# Altium footprint library ATmega32_ComServ.PcbLib: 13 footprints
Each footprint in its own frame and in the unit in brackets; x right, y up, seen from the top. Pads: shape width x height; smd on the part's side, far side on the other; paste and mask are expansions set on the pad; w line width, h text height; cw(c..) or ccw(c..) is an arc to the next point about the centre after c.
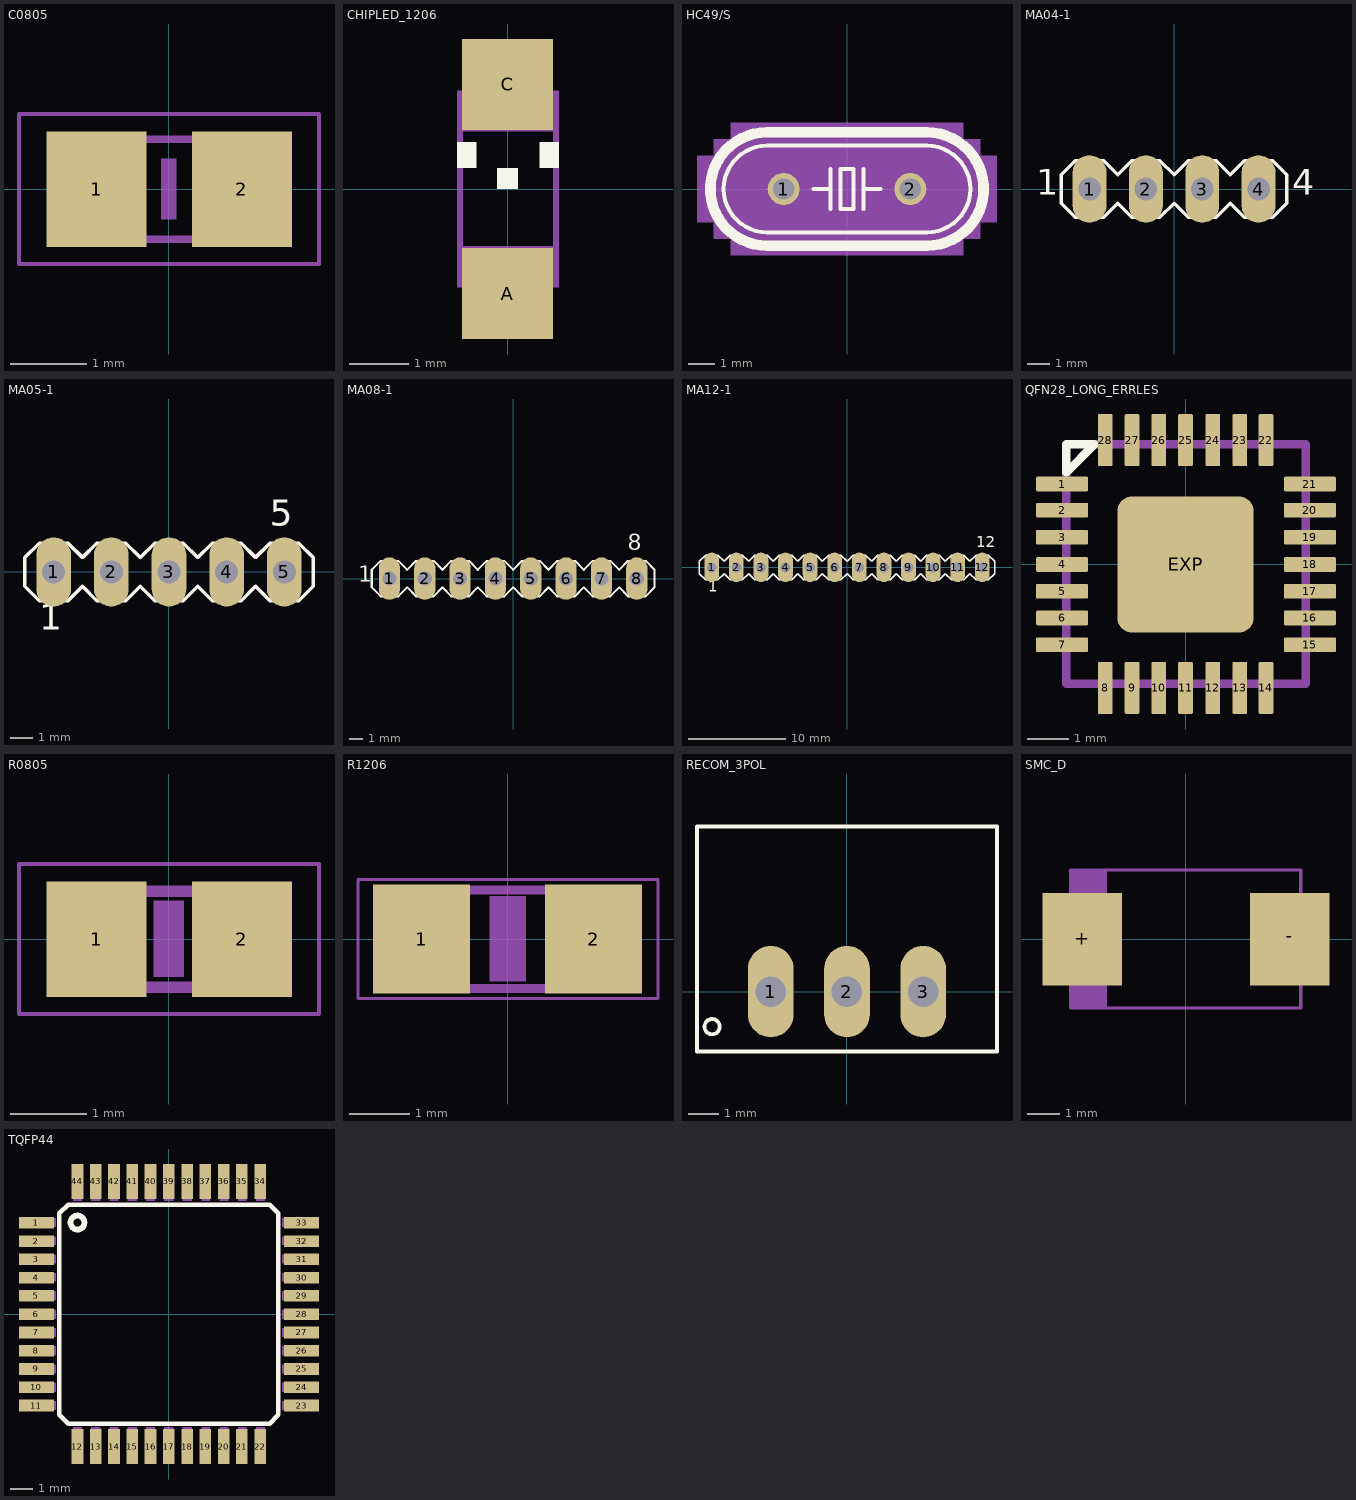
[diagram p0: the footprints below, top view; thin cyan lines are the x and y axes]

## C0805 [mil] "C0805"
pads (2):
  rect 52x60 smd: 1(-37.4,0) 2(38,0)
Mechanical 6:
  rectangle: -3.94,-15.75 4,16
Mechanical 16:
  rectangle: 14,-28.5 44,29
  rectangle: -43,-28.5 -13.47,29
  lines w2: -77.68,-38.7 -77.68,39 78,39 78,-38.7 -77.68,-38.7
  lines w4: -15,26 15,26 ; -14.02,-25.98 15,-25.98

## CHIPLED_1206 [mil] "CHIPLED_1206"
pads (2):
  rect 60x60 smd: A(0,-68.9) C(0,69)
Top Overlay:
  rectangle: -33.46,14 -20.67,31
  rectangle: 21,14 34,31
  rectangle: -6.89,0 7,14
Mechanical 16:
  circle w4: c-21.65,57 r4
  rectangle: -33.46,61 -13.78,65
  rectangle: -33.46,49 -24.61,62
  rectangle: -17.72,49 -12.8,58
  rectangle: -25.59,49 -8.86,54
  rectangle: 14,52 34,65
  rectangle: 10,49 34,54
  rectangle: -33.46,38 34,50
  rectangle: -33.46,-64.96 34,-37.4
  lines w4: -31.5,-37.4 -31.5,38 ; -15.75,63 ccw(c0.13,64.02) 16,63 ; 32,-37.4 32,38

## HC49/S [mil] "HC49/S"
pads (2):
  round 48 hole 32: 1(-95,0) 2(95,0)
Top Overlay:
  lines w6: -50,0 -25,0 ; -25,-30 -25,0 ; -25,30 -25,0 ; 25,-30 25,0 ; 25,30 25,0 ; 50,0 25,0 ; -120,-65 cw(c-120,0) -120,65 120,65 cw(c120,0) 120,-65 -120,-65 ; -10,-30 10,-30 10,30 -10,30 -10,-30
  lines w16: -120,-85 cw(c-120,0) -120,85 120,85 cw(c120,0) 120,-85 -120,-85
Mechanical 10:
  rectangle: -175,-100 175,100
  rectangle: -200,-75 -175,75
  rectangle: -225,-50 -200,50
  rectangle: 175,-75 200,75
  rectangle: 200,-50 225,50

## MA04-1 [mil] "MA04-1"
pads (4):
  oval 60x120 hole 40: 1(-150,0) 2(-50,0) 3(50,0) 4(150,0)
Top Overlay:
  lines w6: -200,-25 -200,25 -175,50 -125,50 -100,25 -75,50 -25,50 0,25 25,50 75,50 100,25 125,50 175,50 200,25 200,-25 175,-50 125,-50 100,-25 75,-50 25,-50 0,-25 -25,-50 -75,-50 -100,-25 -125,-50 -175,-50 -200,-25
  text "1" at -245,-25 h77.5
  text "4" at 210,-25 h77.5
Mechanical 16:
  rectangle: -60,-10 -40,10
  rectangle: -160,-10 -140,10
  rectangle: 40,-10 60,10
  rectangle: 140,-10 160,10

## MA05-1 [mil] "MA05-1"
pads (5):
  oval 60x120 hole 40: 1(-200,0) 2(-100,0) 3(0,0) 4(100,0) 5(200,0)
Top Overlay:
  lines w6: -250,-25 -250,25 -225,50 -175,50 -150,25 -125,50 -75,50 -50,25 -25,50 25,50 50,25 75,50 125,50 150,25 175,50 225,50 250,25 250,-25 225,-50 175,-50 150,-25 125,-50 75,-50 50,-25 25,-50 -25,-50 -50,-25 -75,-50 -125,-50 -150,-25 -175,-50 -225,-50 -250,-25
  text "1" at -225,-115 h77.5
  text "5" at 175,65 h77.5
Mechanical 16:
  rectangle: -110,-10 -90,10
  rectangle: -210,-10 -190,10
  rectangle: -10,-10 10,10
  rectangle: 190,-10 210,10
  rectangle: 90,-10 110,10

## MA08-1 [mil] "MA08-1"
pads (8):
  oval 60x120 hole 40: 1(-350,0) 2(-250,0) 3(-150,0) 4(-50,0) 5(50,0) 6(150,0) 7(250,0) 8(350,0)
Top Overlay:
  lines w6: -400,-25 -400,25 -375,50 -325,50 -300,25 -275,50 -225,50 -200,25 -175,50 -125,50 -100,25 -75,50 -25,50 0,25 25,50 75,50 100,25 125,50 175,50 200,25 225,50 275,50 300,25 325,50 375,50 400,25 400,-25 375,-50 325,-50 300,-25 275,-50 225,-50 200,-25 175,-50 125,-50 100,-25 75,-50 25,-50 0,-25 -25,-50 -75,-50 -100,-25 -125,-50 -175,-50 -200,-25 -225,-50 -275,-50 -300,-25 -325,-50 -375,-50 -400,-25
  text "1" at -439,-25 h77.5
  text "8" at 325,65 h77.5
Mechanical 16:
  rectangle: -260,-10 -240,10
  rectangle: -360,-10 -340,10
  rectangle: -160,-10 -140,10
  rectangle: -60,-10 -40,10
  rectangle: 140,-10 160,10
  rectangle: 40,-10 60,10
  rectangle: 240,-10 260,10
  rectangle: 340,-10 360,10

## MA12-1 [mil] "MA12-1"
pads (12):
  oval 60x120 hole 40: 1(-550,0) 2(-450,0) 3(-350,0) 4(-250,0) 5(-150,0) 6(-50,0) 7(50,0) 8(150,0) 9(250,0) 10(350,0) 11(450,0) 12(550,0)
Top Overlay:
  lines w6: -600,-25 -600,25 -575,50 -525,50 -500,25 -475,50 -425,50 -400,25 -375,50 -325,50 -300,25 -275,50 -225,50 -200,25 -175,50 -125,50 -100,25 -75,50 -25,50 0,25 25,50 75,50 100,25 125,50 175,50 200,25 225,50 275,50 300,25 325,50 375,50 400,25 425,50 475,50 500,25 525,50 575,50 600,25 600,-25 575,-50 525,-50 500,-25 475,-50 425,-50 400,-25 375,-50 325,-50 300,-25 275,-50 225,-50 200,-25 175,-50 125,-50 100,-25 75,-50 25,-50 0,-25 -25,-50 -75,-50 -100,-25 -125,-50 -175,-50 -200,-25 -225,-50 -275,-50 -300,-25 -325,-50 -375,-50 -400,-25 -425,-50 -475,-50 -500,-25 -525,-50 -575,-50 -600,-25
  text "1" at -565,-115 h77.5
  text "12" at 525,65 h77.5
Mechanical 16:
  rectangle: -460,-10 -440,10
  rectangle: -560,-10 -540,10
  rectangle: -360,-10 -340,10
  rectangle: -160,-10 -140,10
  rectangle: -260,-10 -240,10
  rectangle: -60,-10 -40,10
  rectangle: 140,-10 160,10
  rectangle: 40,-10 60,10
  rectangle: 240,-10 260,10
  rectangle: 440,-10 460,10
  rectangle: 340,-10 360,10
  rectangle: 540,-10 560,10

## QFN28_LONG_ERRLES [mil] "QFN28_LONG_ERRLES"
pads (29):
  rrect20% 50x14 smd: 1(-118.11,77) 2(-118.11,52) 3(-118.11,26) 4(-118.11,0) 5(-118.11,-25.59) 6(-118.11,-51.18) 7(-118.11,-76.77) 15(119,-76.77) 16(119,-51.18) 17(119,-25.59) 18(119,0) 19(119,26) 20(119,52) 21(119,77)
  rrect20% 14x50 smd: 8(-76.77,-118.11) 9(-51.18,-118.11) 10(-25.59,-118.11) 11(0,-118.11) 12(26,-118.11) 13(52,-118.11) 14(77,-118.11) 22(77,119) 23(52,119) 24(26,119) 25(0,119) 26(-25.59,119) 27(-51.18,119) 28(-76.77,119)
  rrect20% 130x130 smd: EXP(0,0)
Top Overlay:
  lines w8: -114.11,88 -87.4,115 -114.11,115 -114.11,88
Mechanical 16:
  lines w8: -114.11,88 -114.11,-114.11 115,-114.11 115,115 -87.4,115

## R0805 [mil] "R0805"
pads (2):
  rect 52x60 smd: 1(-37.4,0) 2(38,0)
Mechanical 6:
  rectangle: -7.87,-19.69 8,20
Mechanical 16:
  rectangle: 16,-27.5 42,28
  rectangle: -42,-27.5 -16.41,28
  lines w2: -77.68,-38.7 78,-38.7 78,39 -77.68,39 -77.68,-38.7
  lines w6: -16.14,-25 17,-25 ; -16.14,25 17,25

## R1206 [mil] "R1206"
pads (2):
  rect 63x71 smd: 1(-55.98,0) 2(56,0)
Mechanical 6:
  rectangle: -11.81,-27.56 12,28
Mechanical 16:
  rectangle: -66.5,-34.5 -37.5,35
  rectangle: 38,-34.5 67,35
  lines w2: -97.36,-38.7 98,-38.7 98,39 -97.36,39 -97.36,-38.7
  lines w6: -38,-32 38,-32 ; -38,32 38,32

## RECOM_3POL [mil] "RECOM_3POL"
pads (3):
  oval 60x120 hole 40: 1(-100,0) 2(0,0) 3(100,0)
Top Overlay:
  circle w5: c-177,-46 r10
  lines w5: -196.85,-78.74 197,-78.74 197,217 -196.85,217 -196.85,-78.74
Mechanical 16:
  text "1" at -125,-25 h77.5
  text "2" at -25,-25 h77.5
  text "3" at 75,-25 h77.5

## SMC_D [mil] "SMC_D"
pads (2):
  rect 95x111 smd: +(-124.02,0) -(125,0)
Mechanical 16:
  rectangle: -143.7,-47.24 -135.83,48
  region: 144,48 136,48 136,-47.24 144,-47.24
  rectangle: -137.8,-82.68 -94.49,83
  lines w4: -137.8,-82.68 138,-82.68 138,83 -137.8,83 -137.8,-82.68

## TQFP44 [mil] "TQFP44"
pads (44):
  rect 60x20 smd: 1(-228.35,158) 2(-228.35,126) 3(-228.35,95) 4(-228.35,63) 5(-228.35,32) 6(-228.35,0) 7(-228.35,-31.5) 8(-228.35,-62.99) 9(-228.35,-94.49) 10(-228.35,-125.98) 11(-228.35,-157.48) 23(229,-157.48) 24(229,-125.98) 25(229,-94.49) 26(229,-62.99) 27(229,-31.5) 28(229,0) 29(229,32) 30(229,63) 31(229,95) 32(229,126) 33(229,158)
  rect 20x60 smd: 12(-157.48,-228.35) 13(-125.98,-228.35) 14(-94.49,-228.35) 15(-62.99,-228.35) 16(-31.5,-228.35) 17(0,-228.35) 18(32,-228.35) 19(63,-228.35) 20(95,-228.35) 21(126,-228.35) 22(158,-228.35) 34(158,229) 35(126,229) 36(95,229) 37(63,229) 38(32,229) 39(0,229) 40(-31.5,229) 41(-62.99,229) 42(-94.49,229) 43(-125.98,229) 44(-157.48,229)
Top Overlay:
  circle w10: c-157.48,158 r12
  lines w8: -188.98,-173.23 -188.98,174 -173.23,189 174,189 189,174 189,-173.23 174,-188.98 -173.23,-188.98 -188.98,-173.23
Mechanical 16:
  rectangle: -165.34,195 -149.6,241
  rectangle: -133.86,195 -118.11,241
  rectangle: -102.36,195 -86.61,241
  rectangle: -70.87,195 -55.12,241
  rectangle: -39.37,195 -23.62,241
  rectangle: -7.87,195 8,241
  rectangle: 24,195 40,241
  rectangle: 56,195 71,241
  rectangle: 87,195 103,241
  rectangle: 119,195 134,241
  rectangle: 150,195 166,241
  rectangle: 195,150 241,166
  rectangle: 195,119 241,134
  rectangle: 195,87 241,103
  rectangle: 195,56 241,71
  rectangle: 195,24 241,40
  rectangle: 195,-7.87 241,8
  rectangle: 195,-39.37 241,-23.62
  rectangle: 195,-70.87 241,-55.12
  rectangle: 195,-102.36 241,-86.61
  rectangle: 195,-133.86 241,-118.11
  rectangle: 195.01,-165.35 241.01,-149.61
  rectangle: 150,-240.16 166,-194.88
  rectangle: 119,-240.16 134,-194.88
  rectangle: 87,-240.16 103,-194.88
  rectangle: 56,-240.16 71,-194.88
  rectangle: 24,-240.16 40,-194.88
  rectangle: -7.87,-240.16 8,-194.88
  rectangle: -39.37,-240.16 -23.62,-194.88
  rectangle: -70.87,-240.16 -55.12,-194.88
  rectangle: -102.36,-240.16 -86.61,-194.88
  rectangle: -133.86,-240.16 -118.11,-194.88
  rectangle: -165.35,-240.16 -149.61,-194.88
  rectangle: -240.16,-165.35 -194.88,-149.61
  rectangle: -240.16,-133.86 -194.88,-118.11
  rectangle: -240.16,-102.36 -194.88,-86.61
  rectangle: -240.16,-70.87 -194.88,-55.12
  rectangle: -240.16,-39.37 -194.88,-23.62
  rectangle: -240.16,-7.87 -194.88,8
  rectangle: -240.16,24 -194.88,40
  rectangle: -240.16,56 -194.88,71
  rectangle: -240.16,87 -194.88,103
  rectangle: -240.16,119 -194.88,134
  rectangle: -240.16,150 -194.88,166